# Altium footprint library PCB - LEADLESS - DFN - MPS QFN-14 3x4.PcbLib: 1 footprints
Each footprint in its own frame and in the unit in brackets; x right, y up, seen from the top. Pads: shape width x height; smd on the part's side, far side on the other; paste and mask are expansions set on the pad; w line width, h text height; cw(c..) or ccw(c..) is an arc to the next point about the centre after c.
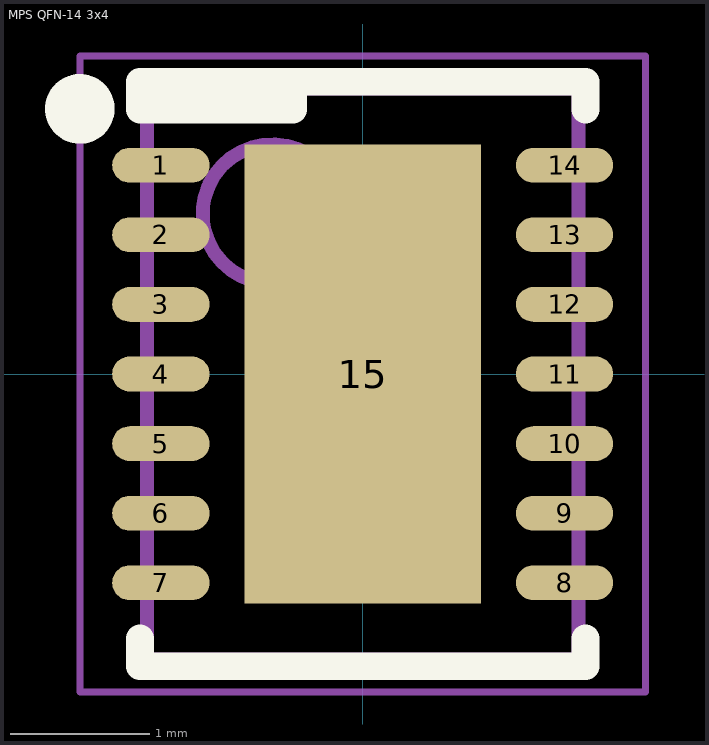
[diagram p0: the footprint, top view; thin cyan lines are the x and y axes]

## MPS QFN-14 3x4 [mm] "DFN, 14-Leads, Body 3.00x4.00mm, Pitch 0.50mm, Thermal Pad 1.70x3.30mm"
height 1
pads (15):
  oval 0.7x0.25 smd: 1(-1.45,1.5) 2(-1.45,1) 3(-1.45,0.5) 4(-1.45,0) 5(-1.45,-0.5) 6(-1.45,-1) 7(-1.45,-1.5) 8(1.45,-1.5) 9(1.45,-1) 10(1.45,-0.5) 11(1.45,0) 12(1.45,0.5) 13(1.45,1) 14(1.45,1.5)
  rect 1.7x3.3 smd: 15(0,0)
Top Overlay:
  circle w0.25: c-2.032,1.905 r0.125
  rectangle: -1.6,1.9 -0.5,2.1
  lines w0.2: -1.6,-1.9 -1.6,-2.1 1.6,-2.1 1.6,-1.9 ; -0.5,2.1 -0.5,1.9 -1.6,1.9 -1.6,2.1 1.6,2.1 1.6,1.9
Mechanical 13:
  circle w0.1: c-0.65,1.15 r0.5
  lines w0.1: -1.55,-2.05 -1.55,2.05 1.55,2.05 1.55,-2.05 -1.55,-2.05
Mechanical 15:
  lines w0.05: -2.032,-2.286 -2.032,2.286 2.032,2.286 2.032,-2.286 -2.032,-2.286
  lines w0.1: -0.5,0 0.5,0 ; 0,-0.5 0,0.5
3D body "MPS QFN-14 3x4.step": height 1, standoff 0, extent -1.56,-2.05 1.56,2.05